# Altium footprint library Bourns Rotary Encoder PEC11R.PcbLib: 1 footprints
Each footprint in its own frame and in the unit in brackets; x right, y up, seen from the top. Pads: shape width x height; smd on the part's side, far side on the other; paste and mask are expansions set on the pad; w line width, h text height; cw(c..) or ccw(c..) is an arc to the next point about the centre after c.
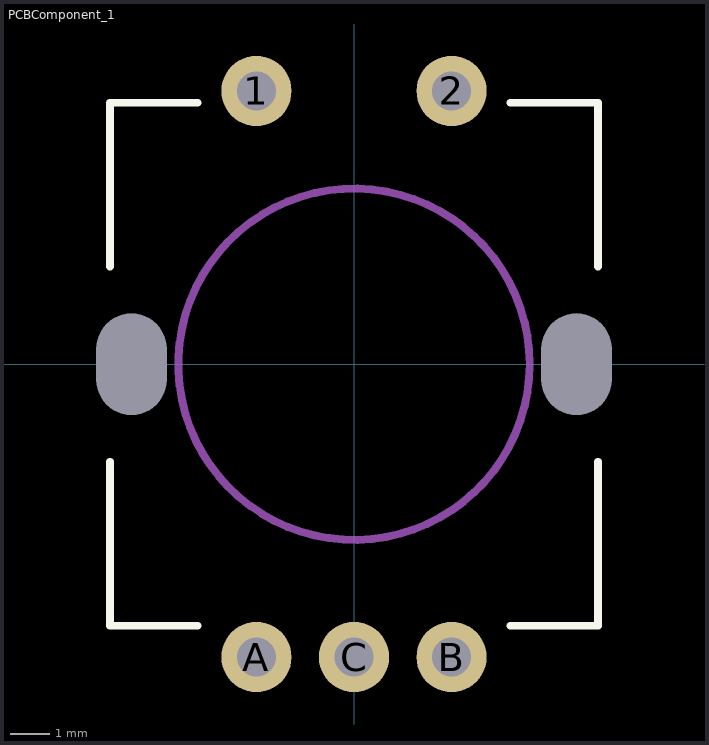
[diagram p0: the footprint, top view; thin cyan lines are the x and y axes]

## PCBComponent_1 [mm]
pads (7):
  round 1.8 hole 1: 1(-2.5,7) 2(2.5,7) A(-2.5,-7.5) B(2.5,-7.5) C(0,-7.5)
  rect 0x0 hole 1.8 slot 2.6 at 90 deg unplated: ""(-5.7,0) ""(5.7,0)
Top Overlay:
  lines w0.2: -6.25,-2.5 -6.25,-6.7 -4,-6.7 ; -6.25,2.5 -6.25,6.7 -4,6.7 ; 4,-6.7 6.25,-6.7 6.25,-2.5 ; 4,6.7 6.25,6.7 6.25,2.5
Mechanical 1:
  circle w0.2: c0,0 r4.5